# Altium schematic symbol library FujinLib.SchLib: 96 symbols (part 2 of 2)
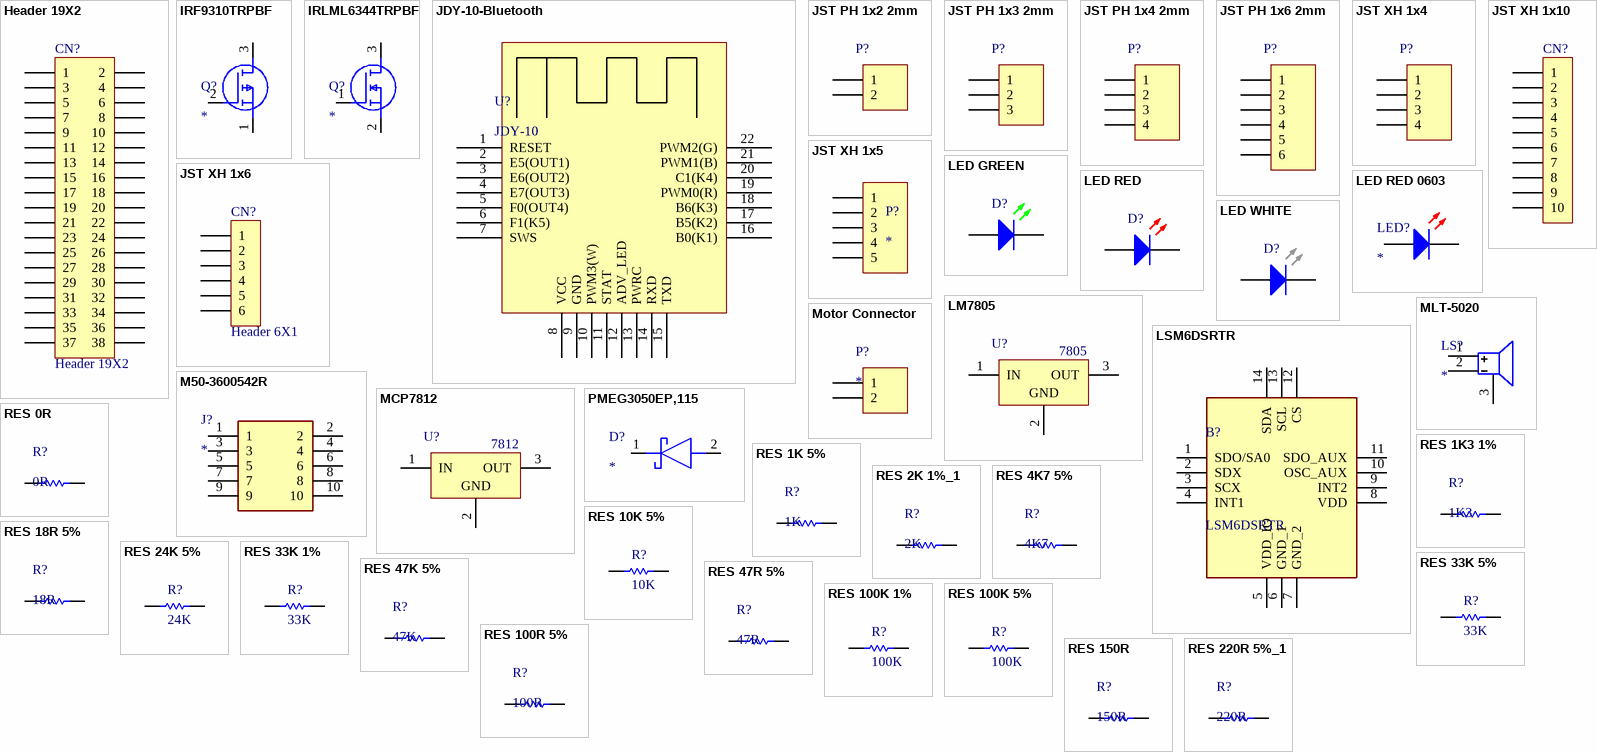
[diagram p3: symbols Header 19X2 to RES 220R 5%_1]

## LED WHITE
designator D?  (value not drawn)
Standard LEDs - SMD White TOPLED Black Surface; Manufacturer: OSRAM; Manufacturer Part Number: LW TWTG.BB-BYBZ; Luminous Intensity Typ: 2000; ComponentLink1URL: http://loja.multcomercial.com.br/led-3mm-vermelho-difuso-l-314hd-paralight.html; ComponentLink1Description: http://loja.multcomercial.com.br/led-3mm-vermelho-difuso-l-314hd-paralight.html; ComponentLink2Description: Mouser; ComponentLink2URL: https://br.mouser.com/ProductDetail/OSRAM-Opto-Semiconductors/LW-TWTGBB-BYBZ-2B12C3-Z486?qs=sGAEpiMZZMseGfSY3csMkdgyOOAg6kv20s3Ceu2Hg6%2Fq9qYEXiqoDQ%3D%3D
footprint LED1411 (3528)
pins: 1 A, 2 K

## LM7805
designator U?  Name: 7805  (hidden comment: LM7805)
Supplier 1: Mouser; Supplier Part Number 1: 926-LM7805CT/NOPB
footprint TO220AB
footprint D-PAK (D-PAK/TO-252-AA; 3 Leads (1 Cropped); Body 10.3 (inc. leads) x 6.7 mm (LxW max))
pins: 1 IN (power), 2 GND (power), 3 OUT (power)

## LSM6DSRTR
designator B?
IMUs - Inertial Measurement Units; Manufacturer_Name: STMicroelectronics; Geometry.Height: 0.86mm; Manufacturer_Part_Number: LSM6DSRTR; Mouser Part Number: *; Mouser Price/Stock: *; Arrow Part Number: *; Arrow Price/Stock: *; Datasheet Link: https://componentsearchengine.com/Datasheets/2/LSM6DSRTR.pdf
footprint QFN50P300X250X86-14N
pins: 1 SDO/SA0, 2 SDX, 3 SCX, 4 INT1, 5 VDD_IO (power), 6 GND_1, 7 GND_2, 8 VDD (power), 9 INT2, 10 OSC_AUX, 11 SDO_AUX, 12 CS, 13 SCL, 14 SDA

## M50-3600542R
designator J?
Connector; Manufacturer_Name: Harwin; Manufacturer_Part_Number: M50-3600542R; Datasheet Link: https://cdn.harwin.com/pdfs/M50-360R.pdf; Mouser Part Number: 855-M50-3600542R; Mouser Price/Stock: https://www.mouser.co.uk/ProductDetail/Harwin/M50-3600542R?qs=DVxm2sPGGrrPu%2FxuhpV3yw%3D%3D
footprint HUSSP10W40P127_2X5_635X340X420P
pins: 1, 2, 3, 4, 5, 6, 7, 8, 9, 10

## MCP7812
designator U?, comment Name: 7812  (hidden comment: LM7812)
Supplier 1: Mouser; Supplier Part Number 1: 926-LM7805CT/NOPB
footprint D-PAK (D-PAK/TO-252-AA; 3 Leads (1 Cropped); Body 10.3 (inc. leads) x 6.7 mm (LxW max))
pins: 1 IN (power), 2 GND (power), 3 OUT (power)

## MLT-5020
designator LS?
Loudspeaker or Buzzer; Manufacturer_Name: PUI Audio; Manufacturer_Part_Number: SMT-0540-S-R; Datasheet Link: http://www.puiaudio.com/pdf/SMT-0540-S-R.pdf; Height: 2mm; Mouser Part Number: 665-SMT0540SR; Mouser Price/Stock: https://www.mouser.co.uk/ProductDetail/PUI-Audio/SMT-0540-S-R?qs=e16JbV5WBEu5VaDVzQP23Q%3D%3D; LCSC: Jiangsu Huaneng Elec MLT-5020; Link: https://www.lcsc.com/product-detail/Buzzers_Jiangsu-Huaneng-Elec-MLT-5020_C94598.html
footprint MLT-5020
pins: 1 +, 2 -, 3 DUMMY

## Motor Connector
designator P?
footprint MOTOR_CONNECTOR
footprint MOTOR_PAD
pins: 1, 2

## PMEG3050EP,115
designator D?
Schottky Diode; Manufacturer_Name: Nexperia; Manufacturer_Part_Number: PMEG3050EP,115; Datasheet Link: https://assets.nexperia.com/documents/data-sheet/PMEG3050EP.pdf; Height: 1mm; Mouser Part Number: 771-PMEG3050EP115; Mouser Price/Stock: https://www.mouser.co.uk/ProductDetail/Nexperia/PMEG3050EP115?qs=GcY6OjH1zdmnjQ%2FhUT5aOA%3D%3D; Arrow Part Number: PMEG3050EP,115; Arrow Price/Stock: https://www.arrow.com/en/products/pmeg3050ep115/nexperia?region=nac
footprint PMEG3050EP115
pins: 1 K, 2 A

## RES 0R
designator R?, comment 0R
Manufacturer: Ty-Ohm; Manufacturer Part Number: CR25; Tolerance: ±5%; Power (Watts): 0.25W, 1/4W; Temperature Coefficient: 0/ -500ppm/°C; Supplier 1: Mult Comercial; RoHS: RoHS Compliant; Category: Resistors; Stock 1: 617543; Pricing 1: 1=0.20 (BRL); Packaging: Cut Tape (CT); Composition: Carbon Film; Features: Flame Retardant Coating, Safety; Operating Temperature: -55°C ~ 155°C; Package / Case: Axial; Supplier Device Package: Axial; Size / Dimension: 0.091" Dia x 0.256" L (2.30mm x 6.50mm); Height: -; Number of Terminations: 2; ComponentLink1URL: http://loja.multcomercial.com.br/resistor-de-1-4-de-watt-cr25-5-de-tolerancia.html; ComponentLink1Description: http://loja.multcomercial.com.br/resistor-de-1-4-de-watt-cr25-5-de-tolerancia.html; Supplier Part Number 1: Resistor de Filme de Carbono 1/4 de Watt CR25 5% de tolerância - 0.22R Ω à 10M Ω; Resistance (Ohms): ?
footprint RESISTOR 0603 (RES 5% 0603)
pins: 1, 2

## RES 1K3 1%
designator R?, comment 1K3
Resistor 1K3 1% tolerance; Manufacturer: Ty-Ohm; Manufacturer Part Number: CR25; Tolerance: ±5%; Power (Watts): 0.25W, 1/4W; Temperature Coefficient: 0/ -500ppm/°C; Supplier 1: Mult Comercial; RoHS: RoHS Compliant; Category: Resistors; Stock 1: 617543; Pricing 1: 1=0.20 (BRL); Packaging: Cut Tape (CT); Composition: Carbon Film; Features: Flame Retardant Coating, Safety; Operating Temperature: -55°C ~ 155°C; Package / Case: Axial; Supplier Device Package: Axial; Size / Dimension: 0.091" Dia x 0.256" L (2.30mm x 6.50mm); Height: -; Number of Terminations: 2; ComponentLink1URL: http://loja.multcomercial.com.br/resistor-de-1-4-de-watt-cr25-5-de-tolerancia.html; ComponentLink1Description: http://loja.multcomercial.com.br/resistor-de-1-4-de-watt-cr25-5-de-tolerancia.html; Supplier Part Number 1: Resistor de Filme de Carbono 1/4 de Watt CR25 5% de tolerância - 0.22R Ω à 10M Ω; Resistance (Ohms): ?
footprint RESISTOR 0603 (RES 5% 0603)
pins: 1, 2

## RES 1K 5%
designator R?, comment 1K
Manufacturer: Ty-Ohm; Manufacturer Part Number: CR25; Tolerance: ±5%; Power (Watts): 0.25W, 1/4W; Temperature Coefficient: 0/ -500ppm/°C; Supplier 1: Mult Comercial; RoHS: RoHS Compliant; Category: Resistors; Stock 1: 617543; Pricing 1: 1=0.20 (BRL); Packaging: Cut Tape (CT); Composition: Carbon Film; Features: Flame Retardant Coating, Safety; Operating Temperature: -55°C ~ 155°C; Package / Case: Axial; Supplier Device Package: Axial; Size / Dimension: 0.091" Dia x 0.256" L (2.30mm x 6.50mm); Height: -; Number of Terminations: 2; ComponentLink1URL: http://loja.multcomercial.com.br/resistor-de-1-4-de-watt-cr25-5-de-tolerancia.html; ComponentLink1Description: http://loja.multcomercial.com.br/resistor-de-1-4-de-watt-cr25-5-de-tolerancia.html; Supplier Part Number 1: Resistor de Filme de Carbono 1/4 de Watt CR25 5% de tolerância - 0.22R Ω à 10M Ω; Resistance (Ohms): ?
footprint RES 1K 1/4W CARBON FILM
footprint RESISTOR 0603 (RES 5% 0603)
pins: 1, 2

## RES 2K 1%_1
designator R?, comment 2K
Resistor 2K 1% tolerance; Manufacturer: Ty-Ohm; Manufacturer Part Number: CR25; Tolerance: ±5%; Power (Watts): 0.25W, 1/4W; Temperature Coefficient: 0/ -500ppm/°C; Supplier 1: Mult Comercial; RoHS: RoHS Compliant; Category: Resistors; Stock 1: 617543; Pricing 1: 1=0.20 (BRL); Packaging: Cut Tape (CT); Composition: Carbon Film; Features: Flame Retardant Coating, Safety; Operating Temperature: -55°C ~ 155°C; Package / Case: Axial; Supplier Device Package: Axial; Size / Dimension: 0.091" Dia x 0.256" L (2.30mm x 6.50mm); Height: -; Number of Terminations: 2; ComponentLink1URL: http://loja.multcomercial.com.br/resistor-de-1-4-de-watt-cr25-5-de-tolerancia.html; ComponentLink1Description: http://loja.multcomercial.com.br/resistor-de-1-4-de-watt-cr25-5-de-tolerancia.html; Supplier Part Number 1: Resistor de Filme de Carbono 1/4 de Watt CR25 5% de tolerância - 0.22R Ω à 10M Ω; Resistance (Ohms): ?
footprint RESISTOR 0603 (RES 5% 0603)
pins: 1, 2

## RES 4K7 5%
designator R?, comment 4K7
Manufacturer: Ty-Ohm; Manufacturer Part Number: CR25; Tolerance: ±5%; Power (Watts): 0.25W, 1/4W; Temperature Coefficient: 0/ -500ppm/°C; Supplier 1: Mult Comercial; RoHS: RoHS Compliant; Category: Resistors; Stock 1: 617543; Pricing 1: 1=0.20 (BRL); Packaging: Cut Tape (CT); Composition: Carbon Film; Features: Flame Retardant Coating, Safety; Operating Temperature: -55°C ~ 155°C; Package / Case: Axial; Supplier Device Package: Axial; Size / Dimension: 0.091" Dia x 0.256" L (2.30mm x 6.50mm); Height: -; Number of Terminations: 2; ComponentLink1URL: http://loja.multcomercial.com.br/resistor-de-1-4-de-watt-cr25-5-de-tolerancia.html; ComponentLink1Description: http://loja.multcomercial.com.br/resistor-de-1-4-de-watt-cr25-5-de-tolerancia.html; Supplier Part Number 1: Resistor de Filme de Carbono 1/4 de Watt CR25 5% de tolerância - 0.22R Ω à 10M Ω
footprint RES 4k7 1/4W CARBON FILM
footprint RESISTOR 0603 (RES 5% 0603)
pins: 1, 2

## RES 10K 5%
designator R?, comment 10K
Manufacturer: PANASONIC ELECTRONIC COMPONENTS; Manufacturer Part Number: ERJ-3GEYJ103V; Tolerance: ±5%; Power (Watts): 0.1W, 1/10W; Temperature Coefficient: ±200ppm/°C; RoHS: YES; ComponentLink1URL: http://www.farnell.com/datasheets/1678796.pdf; ComponentLink1Description: http://www.farnell.com/datasheets/1678796.pdf; Category: Resistors; Packaging: Tape & Reel (TR); Resistance (Ohms): 10k; Composition: Thick Film; Features: Automotive AEC-Q200; Operating Temperature: -55°C ~ 155°C; Package / Case: 0603 (1608 Metric); Supplier Device Package: 0603; Size / Dimension: 0.063" L x 0.031" W (1.60mm x 0.80mm); Height: 0.022" (0.55mm); Number of Terminations: 2; ComponentLink2URL: http://industrial.panasonic.com/www-cgi/jvcr13pz.cgi?E+PZ+3+AOA0001+ERJ3GEYJ103V+7+WW; ComponentLink2Description: http://industrial.panasonic.com/www-cgi/jvcr13pz.cgi?E+PZ+3+AOA0001+ERJ3GEYJ103V+7+WW
footprint RESISTOR 0603 (RES 5% 0603)
footprint RESISTOR 0402
pins: 1, 2

## RES 18R 5%
designator R?, comment 18R
Manufacturer: Ty-Ohm; Manufacturer Part Number: CR25; Tolerance: ±5%; Power (Watts): 0.25W, 1/4W; Temperature Coefficient: 0/ -500ppm/°C; Supplier 1: Mult Comercial; RoHS: RoHS Compliant; Category: Resistors; Stock 1: 617543; Pricing 1: 1=0.20 (BRL); Packaging: Cut Tape (CT); Composition: Carbon Film; Features: Flame Retardant Coating, Safety; Operating Temperature: -55°C ~ 155°C; Package / Case: Axial; Supplier Device Package: Axial; Size / Dimension: 0.091" Dia x 0.256" L (2.30mm x 6.50mm); Height: -; Number of Terminations: 2; ComponentLink1URL: http://loja.multcomercial.com.br/resistor-de-1-4-de-watt-cr25-5-de-tolerancia.html; ComponentLink1Description: http://loja.multcomercial.com.br/resistor-de-1-4-de-watt-cr25-5-de-tolerancia.html; Supplier Part Number 1: Resistor de Filme de Carbono 1/4 de Watt CR25 5% de tolerância - 0.22R Ω à 10M Ω; Resistance (Ohms): 18R
footprint RESISTOR 0603 (RES 5% 0603)
pins: 1, 2

## RES 24K 5%
designator R?, comment 24K
ComponentLink1URL: http://www.farnell.com/datasheets/1678796.pdf; ComponentLink1Description: http://www.farnell.com/datasheets/1678796.pdf; ComponentLink2URL: http://industrial.panasonic.com/www-cgi/jvcr13pz.cgi?E+PZ+3+AOA0001+ERJ3GEYJ103V+7+WW; ComponentLink2Description: http://industrial.panasonic.com/www-cgi/jvcr13pz.cgi?E+PZ+3+AOA0001+ERJ3GEYJ103V+7+WW
footprint RESISTOR 0603 (RES 5% 0603)
pins: 1, 2

## RES 33K 1%
designator R?, comment 33K
ComponentLink1URL: http://www.farnell.com/datasheets/1678796.pdf; ComponentLink1Description: http://www.farnell.com/datasheets/1678796.pdf; ComponentLink2URL: http://industrial.panasonic.com/www-cgi/jvcr13pz.cgi?E+PZ+3+AOA0001+ERJ3GEYJ103V+7+WW; ComponentLink2Description: http://industrial.panasonic.com/www-cgi/jvcr13pz.cgi?E+PZ+3+AOA0001+ERJ3GEYJ103V+7+WW
footprint RESISTOR 0603 (RES 5% 0603)
pins: 1, 2

## RES 33K 5%
designator R?, comment 33K
ComponentLink1URL: http://www.farnell.com/datasheets/1678796.pdf; ComponentLink1Description: http://www.farnell.com/datasheets/1678796.pdf; ComponentLink2URL: http://industrial.panasonic.com/www-cgi/jvcr13pz.cgi?E+PZ+3+AOA0001+ERJ3GEYJ103V+7+WW; ComponentLink2Description: http://industrial.panasonic.com/www-cgi/jvcr13pz.cgi?E+PZ+3+AOA0001+ERJ3GEYJ103V+7+WW
footprint RESISTOR 0603 (RES 5% 0603)
pins: 1, 2

## RES 47K 5%
designator R?, comment 47K
Manufacturer: Ty-Ohm; Manufacturer Part Number: CR25; Tolerance: ±5%; Power (Watts): 0.25W, 1/4W; Temperature Coefficient: 0/ -500ppm/°C; Supplier 1: Mult Comercial; RoHS: RoHS Compliant; Category: Resistors; Stock 1: 617543; Pricing 1: 1=0.20 (BRL); Packaging: Cut Tape (CT); Composition: Carbon Film; Features: Flame Retardant Coating, Safety; Operating Temperature: -55°C ~ 155°C; Package / Case: Axial; Supplier Device Package: Axial; Size / Dimension: 0.091" Dia x 0.256" L (2.30mm x 6.50mm); Height: -; Number of Terminations: 2; ComponentLink1URL: http://loja.multcomercial.com.br/resistor-de-1-4-de-watt-cr25-5-de-tolerancia.html; ComponentLink1Description: http://loja.multcomercial.com.br/resistor-de-1-4-de-watt-cr25-5-de-tolerancia.html; Supplier Part Number 1: Resistor de Filme de Carbono 1/4 de Watt CR25 5% de tolerância - 0.22R Ω à 10M Ω
footprint RESISTOR 0603 (RES 5% 0603)
footprint RESISTOR 0402
pins: 1, 2

## RES 47R 5%
designator R?, comment 47R
Manufacturer: Ty-Ohm; Manufacturer Part Number: CR25; Tolerance: ±5%; Power (Watts): 0.25W, 1/4W; Temperature Coefficient: 0/ -500ppm/°C; Resistance (Ohms): 470R; Supplier 1: Mult Comercial; RoHS: RoHS Compliant; Category: Resistors; Stock 1: 617543; Pricing 1: 1=0.20 (BRL); Packaging: Cut Tape (CT); Composition: Carbon Film; Features: Flame Retardant Coating, Safety; Operating Temperature: -55°C ~ 155°C; Package / Case: Axial; Supplier Device Package: Axial; Size / Dimension: 0.091" Dia x 0.256" L (2.30mm x 6.50mm); Height: -; Number of Terminations: 2; ComponentLink1URL: http://loja.multcomercial.com.br/resistor-de-1-4-de-watt-cr25-5-de-tolerancia.html; ComponentLink1Description: http://loja.multcomercial.com.br/resistor-de-1-4-de-watt-cr25-5-de-tolerancia.html; Supplier Part Number 1: Resistor de Filme de Carbono 1/4 de Watt CR25 5% de tolerância - 0.22R Ω à 10M Ω
footprint RESISTOR 0603 (RES 5% 0603)
footprint RESISTOR 0402
pins: 1, 2

## RES 100K 1%
designator R?, comment 100K
ComponentLink1URL: http://www.farnell.com/datasheets/1678796.pdf; ComponentLink1Description: http://www.farnell.com/datasheets/1678796.pdf; Category: Resistors; Resistance (Ohms): 100k; ComponentLink2URL: http://industrial.panasonic.com/www-cgi/jvcr13pz.cgi?E+PZ+3+AOA0001+ERJ3GEYJ103V+7+WW; ComponentLink2Description: http://industrial.panasonic.com/www-cgi/jvcr13pz.cgi?E+PZ+3+AOA0001+ERJ3GEYJ103V+7+WW
footprint RESISTOR 0603 (RES 5% 0603)
pins: 1, 2

## RES 100K 5%
designator R?, comment 100K
ComponentLink1URL: http://www.farnell.com/datasheets/1678796.pdf; ComponentLink1Description: http://www.farnell.com/datasheets/1678796.pdf; Category: Resistors; Resistance (Ohms): 100k; ComponentLink2URL: http://industrial.panasonic.com/www-cgi/jvcr13pz.cgi?E+PZ+3+AOA0001+ERJ3GEYJ103V+7+WW; ComponentLink2Description: http://industrial.panasonic.com/www-cgi/jvcr13pz.cgi?E+PZ+3+AOA0001+ERJ3GEYJ103V+7+WW
footprint RES 100K 1/4W CARBON FILM
footprint RESISTOR 0603 (RES 5% 0603)
pins: 1, 2

## RES 100R 5%
designator R?, comment 100R
Manufacturer: Ty-Ohm; Manufacturer Part Number: CR25; Tolerance: ±5%; Power (Watts): 0.25W, 1/4W; Temperature Coefficient: 0/ -500ppm/°C; Supplier 1: Mult Comercial; RoHS: RoHS Compliant; Category: Resistors; Stock 1: 617543; Pricing 1: 1=0.20 (BRL); Packaging: Cut Tape (CT); Composition: Carbon Film; Features: Flame Retardant Coating, Safety; Operating Temperature: -55°C ~ 155°C; Package / Case: Axial; Supplier Device Package: Axial; Size / Dimension: 0.091" Dia x 0.256" L (2.30mm x 6.50mm); Height: -; Number of Terminations: 2; ComponentLink1URL: http://loja.multcomercial.com.br/resistor-de-1-4-de-watt-cr25-5-de-tolerancia.html; ComponentLink1Description: http://loja.multcomercial.com.br/resistor-de-1-4-de-watt-cr25-5-de-tolerancia.html; Supplier Part Number 1: Resistor de Filme de Carbono 1/4 de Watt CR25 5% de tolerância - 0.22R Ω à 10M Ω; Resistance (Ohms): ?
footprint RES 1K 1/4W CARBON FILM
footprint RESISTOR 0603 (RES 5% 0603)
pins: 1, 2

## RES 150R
designator R?, comment 150R
Resistor 150R; Manufacturer: Ty-Ohm; Manufacturer Part Number: CR25; Tolerance: ±5%; Power (Watts): 0.25W, 1/4W; Temperature Coefficient: 0/ -500ppm/°C; Supplier 1: Mult Comercial; RoHS: RoHS Compliant; Category: Resistors; Stock 1: 617543; Pricing 1: 1=0.20 (BRL); Packaging: Cut Tape (CT); Composition: Carbon Film; Features: Flame Retardant Coating, Safety; Operating Temperature: -55°C ~ 155°C; Package / Case: Axial; Supplier Device Package: Axial; Size / Dimension: 0.091" Dia x 0.256" L (2.30mm x 6.50mm); Height: -; Number of Terminations: 2; ComponentLink1URL: http://loja.multcomercial.com.br/resistor-de-1-4-de-watt-cr25-5-de-tolerancia.html; ComponentLink1Description: http://loja.multcomercial.com.br/resistor-de-1-4-de-watt-cr25-5-de-tolerancia.html; Supplier Part Number 1: Resistor de Filme de Carbono 1/4 de Watt CR25 5% de tolerância - 0.22R Ω à 10M Ω; Resistance (Ohms): ?
footprint RESISTOR 0603 (RES 5% 0603)
pins: 1, 2

## RES 220R 5%_1
designator R?, comment 220R
Manufacturer: Ty-Ohm; Manufacturer Part Number: CR25; Tolerance: ±5%; Power (Watts): 0.25W, 1/4W; Temperature Coefficient: 0/ -500ppm/°C; Resistance (Ohms): 470R; Supplier 1: Mult Comercial; RoHS: RoHS Compliant; Category: Resistors; Stock 1: 617543; Pricing 1: 1=0.20 (BRL); Packaging: Cut Tape (CT); Composition: Carbon Film; Features: Flame Retardant Coating, Safety; Operating Temperature: -55°C ~ 155°C; Package / Case: Axial; Supplier Device Package: Axial; Size / Dimension: 0.091" Dia x 0.256" L (2.30mm x 6.50mm); Height: -; Number of Terminations: 2; ComponentLink1URL: http://loja.multcomercial.com.br/resistor-de-1-4-de-watt-cr25-5-de-tolerancia.html; ComponentLink1Description: http://loja.multcomercial.com.br/resistor-de-1-4-de-watt-cr25-5-de-tolerancia.html; Supplier Part Number 1: Resistor de Filme de Carbono 1/4 de Watt CR25 5% de tolerância - 0.22R Ω à 10M Ω
footprint RESISTOR 0603 (RES 5% 0603)
pins: 1, 2

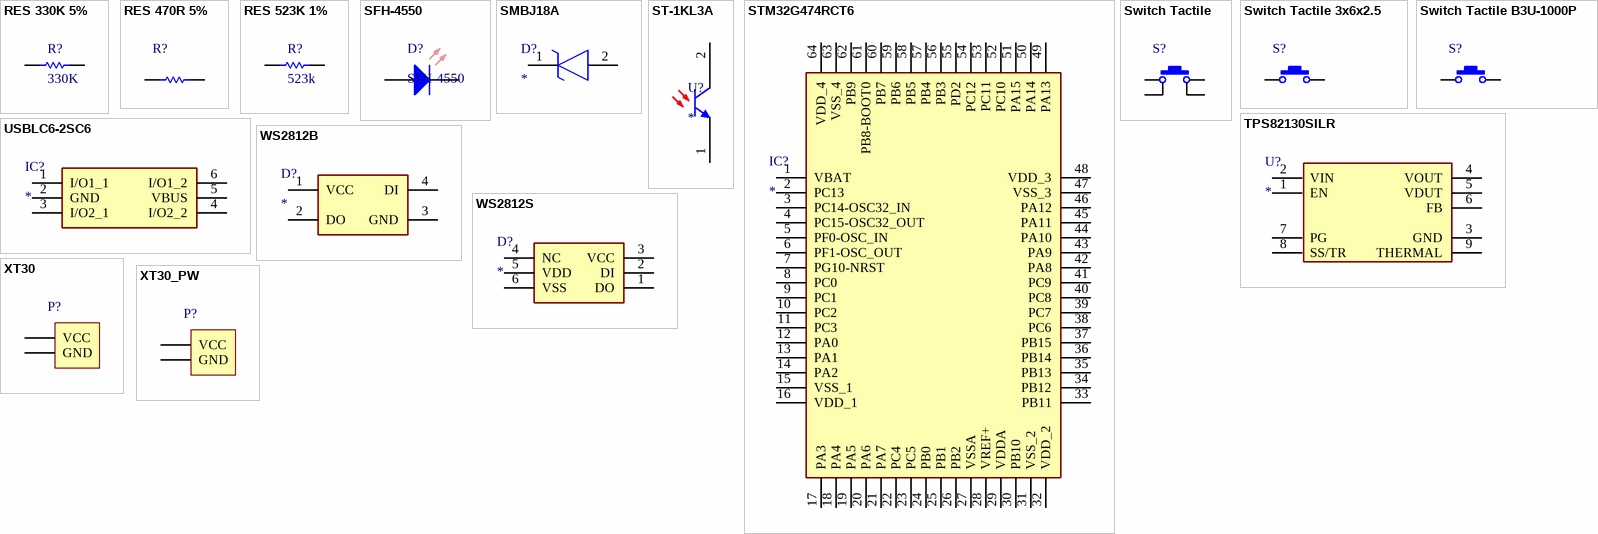
[diagram p2: symbols RES 330K 5% to XT30_PW]

## RES 330K 5%
designator R?, comment 330K
ComponentLink1URL: http://www.farnell.com/datasheets/1678796.pdf; ComponentLink1Description: http://www.farnell.com/datasheets/1678796.pdf; Category: Resistors; Resistance (Ohms): 330k; ComponentLink2URL: http://industrial.panasonic.com/www-cgi/jvcr13pz.cgi?E+PZ+3+AOA0001+ERJ3GEYJ103V+7+WW; ComponentLink2Description: http://industrial.panasonic.com/www-cgi/jvcr13pz.cgi?E+PZ+3+AOA0001+ERJ3GEYJ103V+7+WW
footprint RES 330K 1/4W CARBON FILM
footprint RESISTOR 0603 (RES 5% 0603)
pins: 1, 2

## RES 470R 5%
designator R?, comment 470R  (value not drawn)
Manufacturer: Ty-Ohm; Manufacturer Part Number: CR25; Tolerance: ±5%; Power (Watts): 0.25W, 1/4W; Temperature Coefficient: 0/ -500ppm/°C; Supplier 1: Mult Comercial; RoHS: RoHS Compliant; Category: Resistors; Stock 1: 617543; Pricing 1: 1=0.20 (BRL); Packaging: Cut Tape (CT); Composition: Carbon Film; Features: Flame Retardant Coating, Safety; Operating Temperature: -55°C ~ 155°C; Package / Case: Axial; Supplier Device Package: Axial; Size / Dimension: 0.091" Dia x 0.256" L (2.30mm x 6.50mm); Height: -; Number of Terminations: 2; ComponentLink1URL: http://loja.multcomercial.com.br/resistor-de-1-4-de-watt-cr25-5-de-tolerancia.html; ComponentLink1Description: http://loja.multcomercial.com.br/resistor-de-1-4-de-watt-cr25-5-de-tolerancia.html; Supplier Part Number 1: Resistor de Filme de Carbono 1/4 de Watt CR25 5% de tolerância - 0.22R Ω à 10M Ω; Resistance (Ohms): 470R
footprint RES 470R 1/4W CARBON FILM
footprint RES 470R 1/4W CARBON FILM_STAND
footprint RESISTOR 0603 (RES 5% 0603)
pins: 1, 2

## RES 523K 1%
designator R?, comment 523k
ComponentLink1URL: http://www.farnell.com/datasheets/1678796.pdf; ComponentLink1Description: http://www.farnell.com/datasheets/1678796.pdf; Category: Resistors; Resistance (Ohms): 523k; ComponentLink2URL: http://industrial.panasonic.com/www-cgi/jvcr13pz.cgi?E+PZ+3+AOA0001+ERJ3GEYJ103V+7+WW; ComponentLink2Description: http://industrial.panasonic.com/www-cgi/jvcr13pz.cgi?E+PZ+3+AOA0001+ERJ3GEYJ103V+7+WW
footprint RESISTOR 0603 (RES 5% 0603)
pins: 1, 2

## SFH-4550
designator D?
LED 5mm IR; Manufacturer: OSRAM; Bulb Size: 5mm; Datasheet: https://look.ams-osram.com/m/7d214b223a9adb85/original/SFH-4550.pdf
footprint SFH-4550
pins: 1 A, 2 K

## SMBJ18A
designator D?
TVS Diode (Uni-directional); Manufacturer_Name: Vishay; Manufacturer_Part_Number: SMBJ18A; Datasheet Link: http://www.vishay.com/docs/88392/smbj.pdf; Height: 2.44mm
footprint DIOM5436X244N
pins: 1 K, 2 A

## ST-1KL3A
designator U?
Phototransistor; Manufacturer_Name: Kodenshi; Datasheet Link: https://www.kodenshi.co.jp/top/wp-content/uploads/2022/03/ST-1KL3A.pdf
footprint ST-1KL3A
pins: 1 EMITTER, 2 COLLECTOR

## STM32G474RCT6
designator IC?
Integrated Circuit; Manufacturer_Name: STMicroelectronics; Manufacturer_Part_Number: STM32G474RCT6; Datasheet Link: https://www.mouser.it/datasheet/2/389/dm00431551-1799305.pdf; Height: 1.6mm; Mouser Part Number: 511-STM32G474RCT6; Mouser Price/Stock: https://www.mouser.co.uk/ProductDetail/STMicroelectronics/STM32G474RCT6?qs=uwxL4vQweFOU%2FtVbMPY7ow%3D%3D
footprint QFP50P1200X1200X160-64N
pins: 1 VBAT, 2 PC13, 3 PC14-OSC32_IN, 4 PC15-OSC32_OUT, 5 PF0-OSC_IN, 6 PF1-OSC_OUT, 7 PG10-NRST, 8 PC0, 9 PC1, 10 PC2, 11 PC3, 12 PA0, 13 PA1, 14 PA2, 15 VSS_1, 16 VDD_1, 17 PA3, 18 PA4, 19 PA5, 20 PA6, 21 PA7, 22 PC4, 23 PC5, 24 PB0, 25 PB1, 26 PB2, 27 VSSA, 28 VREF+, 29 VDDA, 30 PB10, 31 VSS_2, 32 VDD_2, 33 PB11, 34 PB12, 35 PB13, 36 PB14, 37 PB15, 38 PC6, 39 PC7, 40 PC8, 41 PC9, 42 PA8, 43 PA9, 44 PA10, 45 PA11, 46 PA12, 47 VSS_3, 48 VDD_3, 49 PA13, 50 PA14, 51 PA15, 52 PC10, 53 PC11, 54 PC12, 55 PD2, 56 PB3, 57 PB4, 58 PB5, 59 PB6, 60 PB7, 61 PB8-BOOT0, 62 PB9, 63 VSS_4, 64 VDD_4

## Switch Tactile
designator S?, comment SPST-NO  (value not drawn)
Switch Tactile SPST-NO 0.02A 15V; Manufacturer: Panasonic Electronic Components; Manufacturer Part Number: EVQ-PAC07K; Switch Function: Off-Mom; Contact Rating @ Voltage: 0.02A @ 15VDC; Actuator Type: Standard; Actuator Height off PCB, from Pins: 7.00mm; Actuator Orientation: Top Actuated; Outline: 6.00mm x 6.00mm; Illumination: Non-Illuminated; Operating Force: 100gf; Switch Travel: 0.25mm; Mechanical Life: 100,000 Cycles; Supplier 1: Digi-Key; RoHS: RoHS Compliant; Category: Switches; Stock 1: 19805; Pricing 1: 1=0.27, 10=0.254, 25=0.2168, 50=0.1896, 100=0.176, 250=0.15572, 500=0.14894, 1000=0.12186, 5000=0.10832 (USD); Packaging: Bulk; Part Status: Active; Circuit: SPST-NO; Mounting Type: Through Hole; Termination Style: PC Pin; Illumination Voltage (Nominal): -; Illumination Type, Color: -; Ingress Protection: -; Features: -; Actuator Material: -; Operating Temperature: -20°C ~ 70°C; ComponentLink1URL: http://industrial.panasonic.com/cdbs/www-data/pdf/ATK0000/ATK0000CE10.pdf; ComponentLink1Description: http://industrial.panasonic.com/cdbs/www-data/pdf/ATK0000/ATK0000CE10.pdf; Supplier Part Number 1: P8011S-ND
footprint TACT SWITCH 6X6X7MM (Tactile Switch 6x6x7mm)
pins: 1, 2, 3, 4

## Switch Tactile 3x6x2.5
designator S?, comment SPST-NO  (value not drawn)
Manufacturer: Panasonic Electronic Components; Manufacturer Part Number: EVQ-PAC07K; Switch Function: Off-Mom; Contact Rating @ Voltage: 0.02A @ 15VDC; Actuator Type: Standard; Actuator Height off PCB, from Pins: 7.00mm; Actuator Orientation: Top Actuated; Outline: 6.00mm x 6.00mm; Illumination: Non-Illuminated; Operating Force: 100gf; Switch Travel: 0.25mm; Mechanical Life: 100,000 Cycles; Supplier 1: Digi-Key; RoHS: RoHS Compliant; Category: Switches; Stock 1: 19805; Pricing 1: 1=0.27, 10=0.254, 25=0.2168, 50=0.1896, 100=0.176, 250=0.15572, 500=0.14894, 1000=0.12186, 5000=0.10832 (USD); Packaging: Bulk; Part Status: Active; Circuit: SPST-NO; Mounting Type: Through Hole; Termination Style: PC Pin; Illumination Voltage (Nominal): -; Illumination Type, Color: -; Ingress Protection: -; Features: -; Actuator Material: -; Operating Temperature: -20°C ~ 70°C; ComponentLink1URL: http://industrial.panasonic.com/cdbs/www-data/pdf/ATK0000/ATK0000CE10.pdf; ComponentLink1Description: http://industrial.panasonic.com/cdbs/www-data/pdf/ATK0000/ATK0000CE10.pdf; Supplier Part Number 1: P8011S-ND
footprint TACTILE SWITCH 3x6x2.5 (Chip Capacitor; Body 1.6 x 0.8 mm (LxW typ))
pins: 1, 2

## Switch Tactile B3U-1000P
designator S?, comment SPST-NO  (value not drawn)
Manufacturer: Omron; Supplier 1: Digi-Key; ComponentLink1URL: https://br.mouser.com/ProductDetail/Omron-Electronics/B3U-1000P?qs=AO7BQMcsEu4ip80xyf2FwA%3D%3D; ComponentLink1Description: http://industrial.panasonic.com/cdbs/www-data/pdf/ATK0000/ATK0000CE10.pdf
footprint B3U-1000P
pins: 1, 2

## TPS82130SILR
designator U?
Undefined or Miscellaneous; Manufacturer_Name: Texas Instruments; Manufacturer_Part_Number: TPS82130SILR; Datasheet Link: http://www.ti.com/lit/gpn/tps82130; Mouser Part Number: 595-TPS82130SILR; Mouser Price/Stock: https://www.mouser.co.uk/ProductDetail/Texas-Instruments/TPS82130SILR?qs=diC8vqfyxkoyC4Q%252BBNy%2FPA%3D%3D; Arrow Part Number: TPS82130SILR; Arrow Price/Stock: https://www.arrow.com/en/products/tps82130silr/texas-instruments?region=europe
footprint SIL0008D
pins: 1 EN, 2 VIN, 3 GND, 4 VOUT, 5 VDUT, 6 FB, 7 PG, 8 SS/TR, 9 THERMAL

## USBLC6-2SC6
designator IC?
Integrated Circuit; Manufacturer_Name: STMicroelectronics; Manufacturer_Part_Number: USBLC6-2SC6; Datasheet Link: http://www.st.com/st-web-ui/static/active/en/resource/technical/document/datasheet/CD00050750.pdf; Height: 1.45mm; Mouser Part Number: 511-USBLC6-2SC6; Mouser Price/Stock: https://www.mouser.co.uk/ProductDetail/STMicroelectronics/USBLC6-2SC6?qs=po45yt2pPpu%2FhNIlwQdTlg%3D%3D; Arrow Part Number: USBLC6-2SC6; Arrow Price/Stock: https://www.arrow.com/en/products/usblc6-2sc6/stmicroelectronics?region=nac
footprint SOT95P280X145-6N
pins: 1 I/O1_1, 2 GND, 3 I/O2_1, 4 I/O2_2, 5 VBUS, 6 I/O1_2

## WS2812B
designator D?
Diode; Manufacturer_Name: Worldsemi; Manufacturer_Part_Number: WS2812; Datasheet Link: https://www.adafruit.com/datasheets/WS2812.pdf
footprint WS2812B
pins: 1 VCC (power), 2 DO, 3 GND (power), 4 DI

## WS2812S
designator D?
Diode; Manufacturer_Name: Worldsemi; Manufacturer_Part_Number: WS2812; Datasheet Link: https://www.adafruit.com/datasheets/WS2812.pdf
footprint WS2812 (Footprint not found)
pins: 1 DO, 2 DI, 3 VCC, 4 NC, 5 VDD, 6 VSS

## XT30
designator P?, comment Header 1x2  (value not drawn)
Manufacturer: Cromax; Manufacturer Part Number: IMP10327; Mounting Angle: Vertical; Number of Positions: 40 Position; Pitch: 2 mm; Supplier 1: Mult Comercial; RoHS: RoHS Compliant; Category: Headers & Wire Housings; Stock 1: 14; Pricing 1: 1=1.00, 5=0.20 (BRL); Accessory Type: -; Contact Plating: Gold; Contact Type: -; Number of Rows: 1 Row; Product: Headers; Termination Style: Through Hole; Type: Breakaway; Brand: Cromax; Mounting Style: Straight Pin; Row Spacing: -; Contact Gender: Pin (Male); Product Category: Accessories; RoHS - Mouser: Y; Minimum Order Quantity: 1; Reeling: False; ComponentLink1URL: http://loja.multcomercial.com.br/barra-de-pinos-simples-1x40-macho-bmo40-1e.html; ComponentLink1Description: http://loja.multcomercial.com.br/barra-de-pinos-simples-1x40-macho-bmo40-1e.html; Supplier Part Number 1: Barra de Pinos Simples 1x40 Macho BMO40-1E
footprint XT30MALE (XT60 MALE)
pins: 1 VCC, 2 GND

## XT30_PW
designator P?, comment Header 1x2  (value not drawn)
XT30 90 degrees - AMASS; Manufacturer: Cromax; Manufacturer Part Number: IMP10327; Mounting Angle: Vertical; Number of Positions: 40 Position; Pitch: 2 mm; Supplier 1: Mult Comercial; RoHS: RoHS Compliant; Category: Headers & Wire Housings; Stock 1: 14; Pricing 1: 1=1.00, 5=0.20 (BRL); Accessory Type: -; Contact Plating: Gold; Contact Type: -; Number of Rows: 1 Row; Product: Headers; Termination Style: Through Hole; Type: Breakaway; Brand: Cromax; Mounting Style: Straight Pin; Row Spacing: -; Contact Gender: Pin (Male); Product Category: Accessories; RoHS - Mouser: Y; Minimum Order Quantity: 1; Reeling: False; ComponentLink1URL: http://loja.multcomercial.com.br/barra-de-pinos-simples-1x40-macho-bmo40-1e.html; ComponentLink1Description: http://loja.multcomercial.com.br/barra-de-pinos-simples-1x40-macho-bmo40-1e.html; Supplier Part Number 1: Barra de Pinos Simples 1x40 Macho BMO40-1E
footprint XT30PW-MALE
pins: 1 VCC, 2 GND